# Altium integrated library Analog Devices Data Converters Digital-to-Analog Converters.IntLib: 2231 symbols (part 10 of 181)
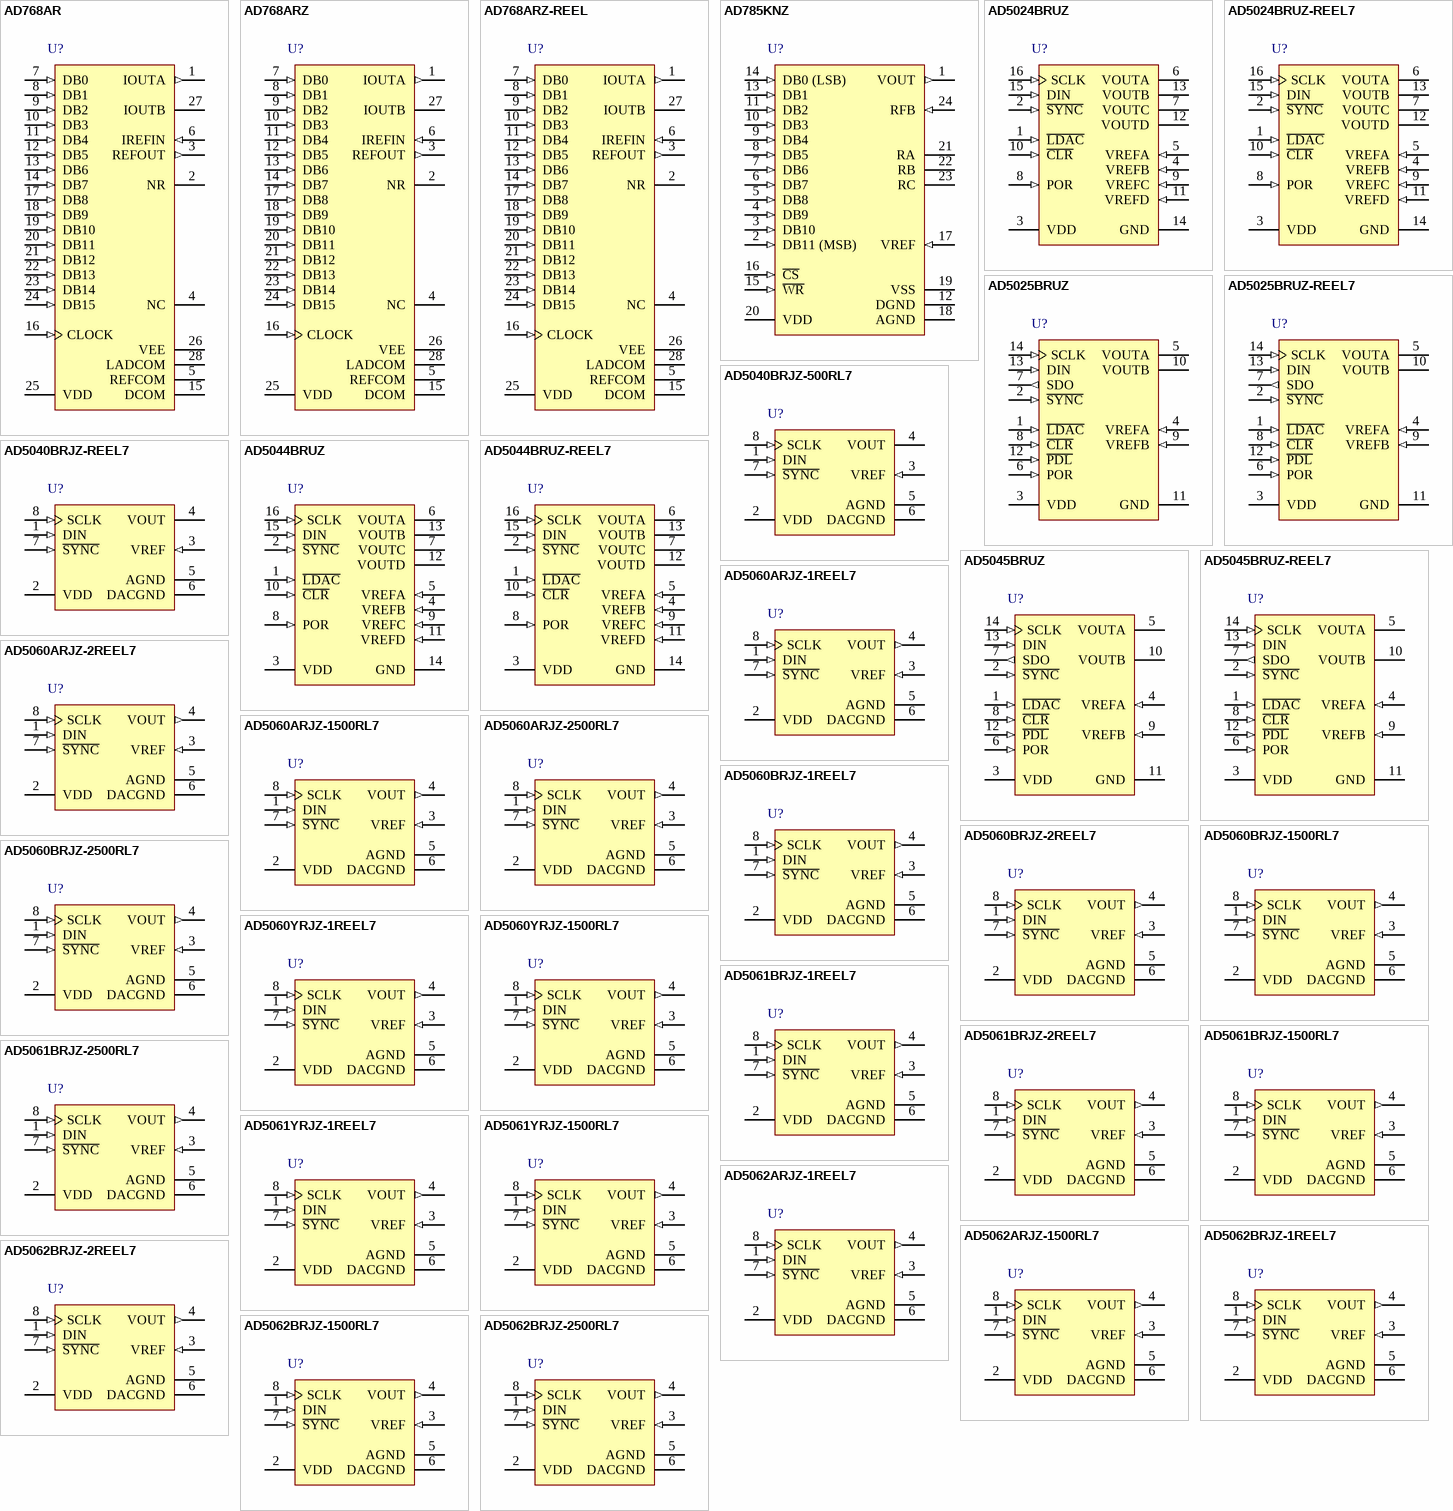
[diagram p123: symbols AD768AR to AD5062BRJZ-2500RL7]

## AD5062BRJZ-2REEL7
designator U?
Single 16-Bit Fully Accurate Voltage Output nanoDAC with SPI Interface, 2.7 to 5.5 V, -40 to +85 degC, RJ-8, Pb-Free, Reel; Generic Part Number: AD5062; Manufacturer: Analog Devices; PartNumber: AD5062BRJZ-2REEL7; # DAC Outputs: 1; Max V+: 5.5V; Op Pwr Diss: 3.3mW; Resolution (Bits): 16; Settling Time: 4µs; Single Supply: Yes; DatasheetVersion: Rev.A; PackageVersion: 121608-A; PackageReference: RJ-8; PackageDescription: 8-Lead Thin Small Outline Transistor Package [SOT-23]; Supplier 1: Digi-Key; Supplier Part Number 1: AD5062BRJZ-2REEL7TR-ND; Supplier 2: Digi-Key; Supplier Part Number 2: AD5062BRJZ-2REEL7CT-ND; Supplier 3: Digi-Key; Supplier Part Number 3: AD5062BRJZ-2REEL7DKR-ND; Supplier 4: Newark; Supplier Part Number 4: 59K3544; Supplier 5: Mouser; Supplier Part Number 5: 584-AD5062BRJZ-2R7; Packing: Reel; RoHS: Y; Mounting Technology: Surface Mount; Code_JEDEC: MO-178-BA; ComponentLink1Description: Manufacturer URL; ComponentLink1URL: http://www.analog.com/en/index.html; ComponentLink2Description: Datasheet; ComponentLink2URL: http://www.analog.com/static/imported-files/data_sheets/AD5062.pdf; ComponentLink3Description: Package Specification; ComponentLink3URL: http://www.analog.com/static/imported-files/packages/PKG_PDF/SOT-23(RJ)/RJ_8.pdf; ComponentLink4Description: Product URL; ComponentLink4URL: http://www.analog.com/en/digital-to-analog-converters/da-converters/ad5062/products/product.html
footprint RJ-8_N (SOP, 8-Leads, Body 2.9x1.6mm, Pitch 0.65mm, IPC Medium Density)
footprint RJ-8_L (SOP, 8-Leads, Body 2.9x1.6mm, Pitch 0.65mm, IPC High Density)
footprint RJ-8_M (SOP, 8-Leads, Body 2.9x1.6mm, Pitch 0.65mm, IPC Low Density)
pins: 1 DIN (in) "Serial Data Input. This device has a 24-bit shift register. Data is clocked into the register on the falling edge of the serial clock input.", 2 VDD (power) "Power Supply Input. These parts can be operated from 2.7 V to 5.5 V, and VDD should be decoupled to GND.", 3 VREF (in) "Reference Voltage Input.", 4 VOUT (out) "Analog Output Voltage from DAC.", 5 AGND (power) "Ground Reference Point for Analog Circuitry.", 6 DACGND (power) "Ground Input to the DAC.", 7 ~{SYNC} (in) "Level-Triggered Control Input (Active Low). This is the frame synchronization signal for the input data. When S\Y\N\C\ goes low, it enables the input shift register, and data is transferred in on the falling edges of the (See Datasheet)", 8 SCLK (in) "Serial Clock Input. Data is clocked into the input shift register on the falling edge of the serial clock input. Data can be transferred at rates up to 30 MHz."

## AD5062BRJZ-1500RL7
designator U?
Single 16-Bit Fully Accurate Voltage Output nanoDAC with SPI Interface, 2.7 to 5.5 V, -40 to +85 degC, RJ-8, Pb-Free, Reel; Generic Part Number: AD5062; Manufacturer: Analog Devices; PartNumber: AD5062BRJZ-1500RL7; # DAC Outputs: 1; Max V+: 5.5V; Op Pwr Diss: 3.3mW; Resolution (Bits): 16; Settling Time: 4µs; Single Supply: Yes; DatasheetVersion: Rev.A; PackageVersion: 121608-A; PackageReference: RJ-8; PackageDescription: 8-Lead Thin Small Outline Transistor Package [SOT-23]; Supplier 1: Digi-Key; Supplier Part Number 1: AD5062BRJZ-1500RL7TR-ND; Supplier 2: Digi-Key; Supplier Part Number 2: AD5062BRJZ-1500RL7CT-ND; Supplier 3: Digi-Key; Supplier Part Number 3: AD5062BRJZ-1500RL7DKR-ND; Supplier 4: Farnell; Supplier Part Number 4: 2067832; Supplier 5: Newark; Supplier Part Number 5: 72T0900; Supplier 6: Newark; Supplier Part Number 6: 59K3543; Supplier 7: Mouser; Supplier Part Number 7: 584-AD5062BRJZ1500R7; Packing: Reel; RoHS: Y; Mounting Technology: Surface Mount; Code_JEDEC: MO-178-BA; ComponentLink1Description: Manufacturer URL; ComponentLink1URL: http://www.analog.com/en/index.html; ComponentLink2Description: Datasheet; ComponentLink2URL: http://www.analog.com/static/imported-files/data_sheets/AD5062.pdf; ComponentLink3Description: Package Specification; ComponentLink3URL: http://www.analog.com/static/imported-files/packages/PKG_PDF/SOT-23(RJ)/RJ_8.pdf; ComponentLink4Description: Product URL; ComponentLink4URL: http://www.analog.com/en/digital-to-analog-converters/da-converters/ad5062/products/product.html
footprint RJ-8_N (SOP, 8-Leads, Body 2.9x1.6mm, Pitch 0.65mm, IPC Medium Density)
footprint RJ-8_L (SOP, 8-Leads, Body 2.9x1.6mm, Pitch 0.65mm, IPC High Density)
footprint RJ-8_M (SOP, 8-Leads, Body 2.9x1.6mm, Pitch 0.65mm, IPC Low Density)
pins: 1 DIN (in) "Serial Data Input. This device has a 24-bit shift register. Data is clocked into the register on the falling edge of the serial clock input.", 2 VDD (power) "Power Supply Input. These parts can be operated from 2.7 V to 5.5 V, and VDD should be decoupled to GND.", 3 VREF (in) "Reference Voltage Input.", 4 VOUT (out) "Analog Output Voltage from DAC.", 5 AGND (power) "Ground Reference Point for Analog Circuitry.", 6 DACGND (power) "Ground Input to the DAC.", 7 ~{SYNC} (in) "Level-Triggered Control Input (Active Low). This is the frame synchronization signal for the input data. When S\Y\N\C\ goes low, it enables the input shift register, and data is transferred in on the falling edges of the (See Datasheet)", 8 SCLK (in) "Serial Clock Input. Data is clocked into the input shift register on the falling edge of the serial clock input. Data can be transferred at rates up to 30 MHz."

## AD5062BRJZ-2500RL7
designator U?
Single 16-Bit Fully Accurate Voltage Output nanoDAC with SPI Interface, 2.7 to 5.5 V, -40 to +85 degC, RJ-8, Pb-Free, Reel; Generic Part Number: AD5062; Manufacturer: Analog Devices; PartNumber: AD5062BRJZ-2500RL7; # DAC Outputs: 1; Max V+: 5.5V; Op Pwr Diss: 3.3mW; Resolution (Bits): 16; Settling Time: 4µs; Single Supply: Yes; DatasheetVersion: Rev.A; PackageVersion: 121608-A; PackageReference: RJ-8; PackageDescription: 8-Lead Thin Small Outline Transistor Package [SOT-23]; Supplier 1: Digi-Key; Supplier Part Number 1: AD5062BRJZ-2500RL7TR-ND; Supplier 2: Digi-Key; Supplier Part Number 2: AD5062BRJZ-2500RL7CT-ND; Supplier 3: Digi-Key; Supplier Part Number 3: AD5062BRJZ-2500RL7DKR-ND; Supplier 4: Farnell; Supplier Part Number 4: 2067834; Supplier 5: Newark; Supplier Part Number 5: 72T0901; Supplier 6: Mouser; Supplier Part Number 6: 584-AD5062BRJZ2500R7; Packing: Reel; RoHS: Y; Mounting Technology: Surface Mount; Code_JEDEC: MO-178-BA; ComponentLink1Description: Manufacturer URL; ComponentLink1URL: http://www.analog.com/en/index.html; ComponentLink2Description: Datasheet; ComponentLink2URL: http://www.analog.com/static/imported-files/data_sheets/AD5062.pdf; ComponentLink3Description: Package Specification; ComponentLink3URL: http://www.analog.com/static/imported-files/packages/PKG_PDF/SOT-23(RJ)/RJ_8.pdf; ComponentLink4Description: Product URL; ComponentLink4URL: http://www.analog.com/en/digital-to-analog-converters/da-converters/ad5062/products/product.html
footprint RJ-8_N (SOP, 8-Leads, Body 2.9x1.6mm, Pitch 0.65mm, IPC Medium Density)
footprint RJ-8_L (SOP, 8-Leads, Body 2.9x1.6mm, Pitch 0.65mm, IPC High Density)
footprint RJ-8_M (SOP, 8-Leads, Body 2.9x1.6mm, Pitch 0.65mm, IPC Low Density)
pins: 1 DIN (in) "Serial Data Input. This device has a 24-bit shift register. Data is clocked into the register on the falling edge of the serial clock input.", 2 VDD (power) "Power Supply Input. These parts can be operated from 2.7 V to 5.5 V, and VDD should be decoupled to GND.", 3 VREF (in) "Reference Voltage Input.", 4 VOUT (out) "Analog Output Voltage from DAC.", 5 AGND (power) "Ground Reference Point for Analog Circuitry.", 6 DACGND (power) "Ground Input to the DAC.", 7 ~{SYNC} (in) "Level-Triggered Control Input (Active Low). This is the frame synchronization signal for the input data. When S\Y\N\C\ goes low, it enables the input shift register, and data is transferred in on the falling edges of the (See Datasheet)", 8 SCLK (in) "Serial Clock Input. Data is clocked into the input shift register on the falling edge of the serial clock input. Data can be transferred at rates up to 30 MHz."

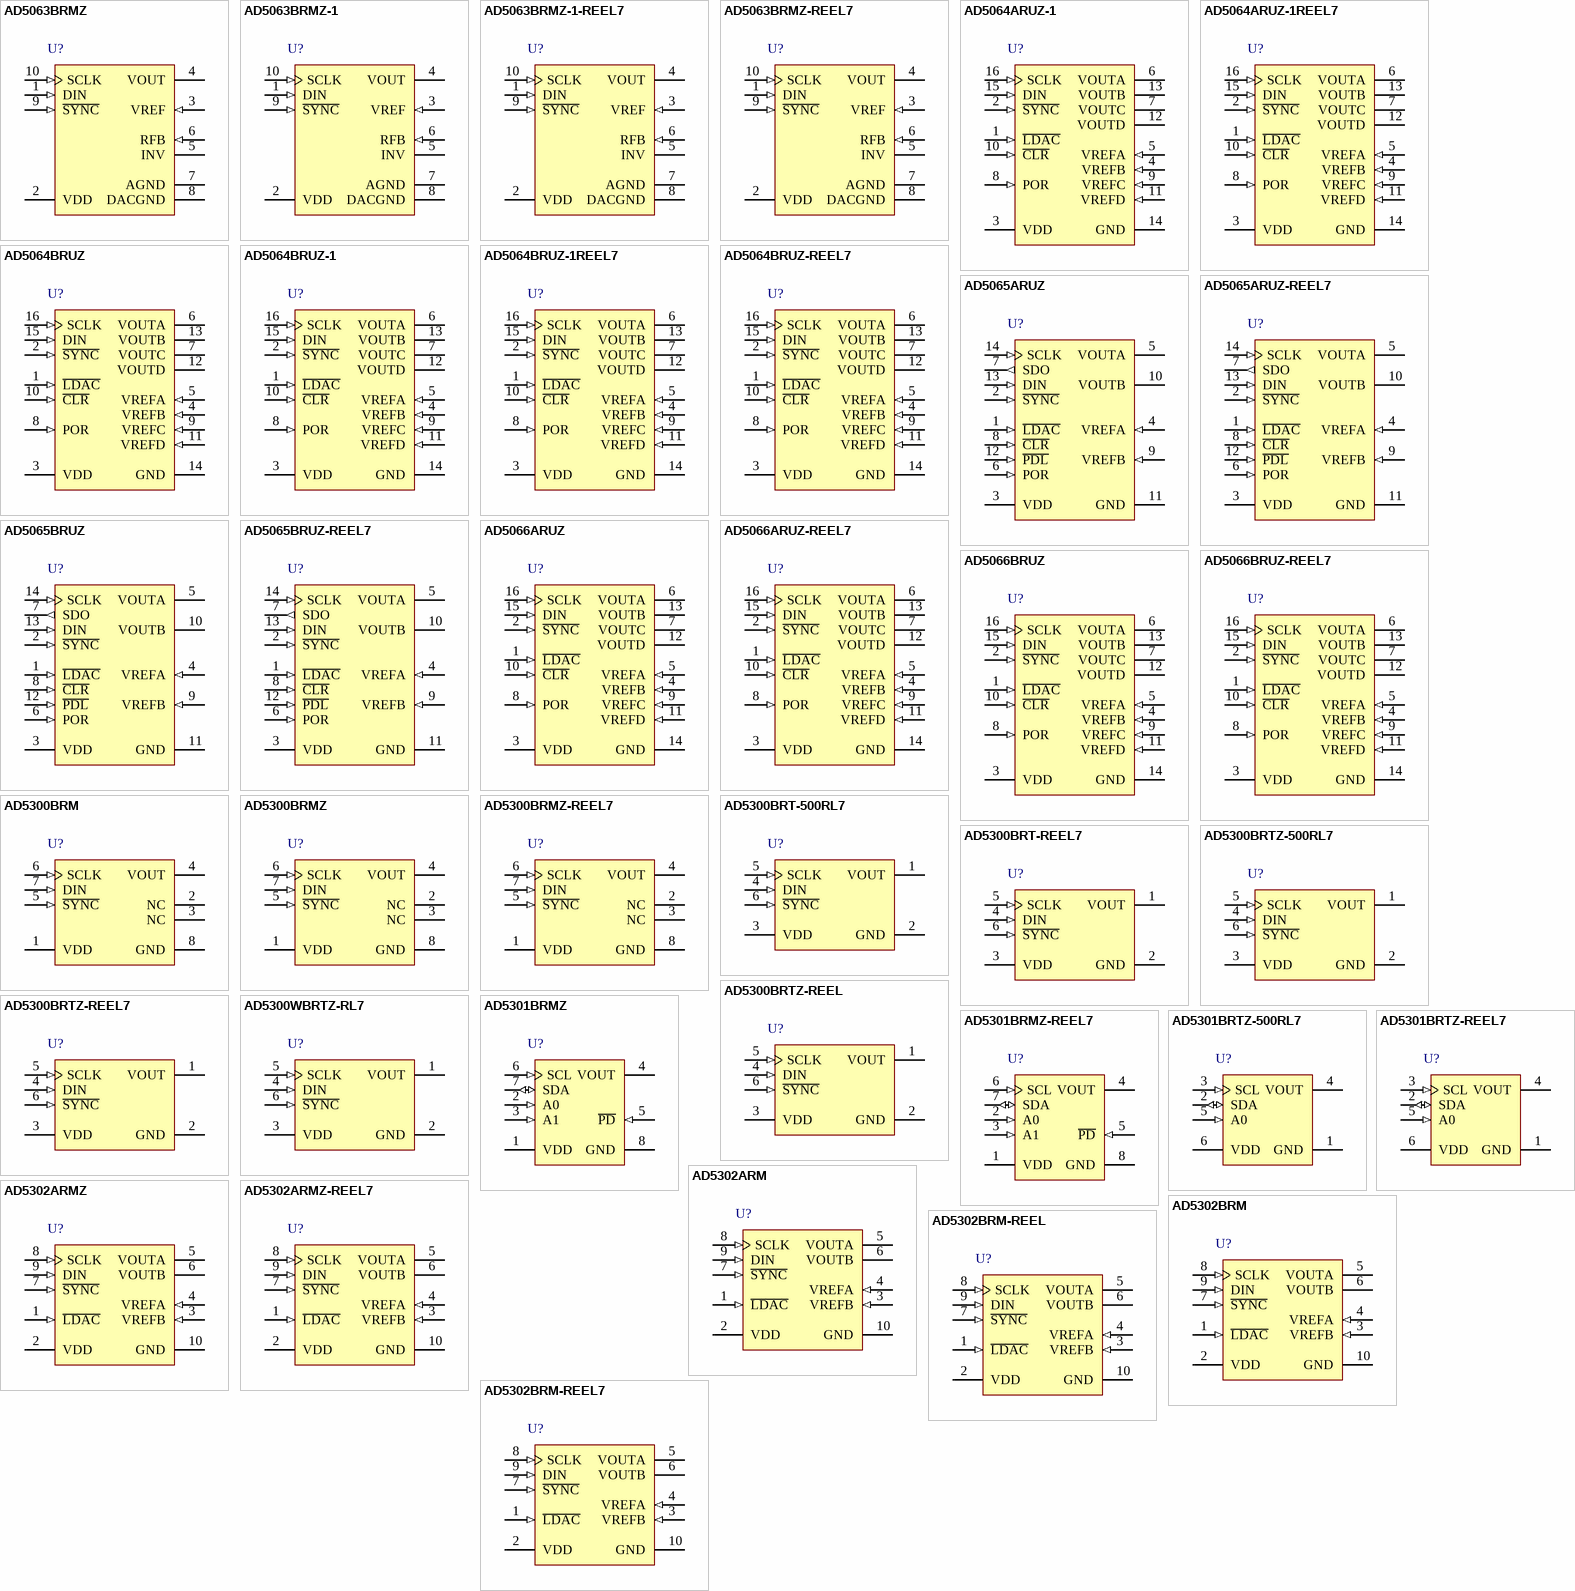
[diagram p9: symbols AD5063BRMZ to AD5302BRM-REEL7]

## AD5063BRMZ
designator U?
Single 16-Bit Fully Accurate Voltage Output nanoDAC with SPI Interface, 5 V, -40 to +85 degC, RM-10, Pb-Free, Tube; Generic Part Number: AD5063; Manufacturer: Analog Devices; PartNumber: AD5063BRMZ; # DAC Outputs: 1; Max V+: 5.5V; Op Pwr Diss: 3.85mW; Resolution (Bits): 16; Settling Time: 4µs; Single Supply: Yes; DatasheetVersion: Rev.C; PackageVersion: May-2005; PackageReference: RM-10; PackageDescription: 10-Lead Mini Small Outline Package [MSOP]; Supplier 1: Digi-Key; Supplier Part Number 1: AD5063BRMZ-ND; Supplier 2: Farnell; Supplier Part Number 2: 1078400; Supplier 3: Newark; Supplier Part Number 3: 19M0786; Supplier 4: Mouser; Supplier Part Number 4: 584-AD5063BRMZ; Packing: Tube; RoHS: Y; Mounting Technology: Surface Mount; ComponentLink1Description: Manufacturer URL; ComponentLink1URL: http://www.analog.com/en/index.html; ComponentLink2Description: Datasheet; ComponentLink2URL: http://www.analog.com/static/imported-files/data_sheets/AD5063.pdf; ComponentLink3Description: Package Specification; ComponentLink3URL: http://www.analog.com/static/imported-files/packages/PKG_PDF/MSOP%28RM%29/RM_10.pdf; ComponentLink4Description: Product URL; ComponentLink4URL: http://www.analog.com/en/digital-to-analog-converters/da-converters/ad5063/products/product.html
footprint RM-10_N (TSSOP, 10-Leads, Body 3x3mm, Pitch 0.5mm, IPC Medium Density)
footprint RM-10_L (TSSOP, 10-Leads, Body 3x3mm, Pitch 0.5mm, IPC High Density)
footprint RM-10_M (TSSOP, 10-Leads, Body 3x3mm, Pitch 0.5mm, IPC Low Density)
pins: 1 DIN (in) "Serial Data Input. This device has a 24-bit shift register. Data is clocked into the register on the falling edge of the serial clock input.", 2 VDD (power) "Power Supply Input. These parts can be operated from 2.7 V to 5.5 V, and VDD should be decoupled to GND.", 3 VREF (in) "Reference Voltage Input.", 4 VOUT (hiz) "Analog Output Voltage from DAC.", 5 INV "Connected to the Internal Scaling Resistors of the DAC. Connect the INV pin to the external op amp’s inverting input in bipolar mode.", 6 RFB (in) "Feedback Resistor. In bipolar mode, connect this pin to the external op amp circuit.", 7 AGND (power) "Ground Reference Point for Analog Circuitry.", 8 DACGND (power) "Ground Input to the DAC.", 9 ~{SYNC} (in) "Level-Triggered Control Input (Active Low). This is the frame synchronization signal for the input data. When S\Y\N\C\ goes low, it enables the input shift register, and data is then transferred in on the falling edges of (See Datasheet)", 10 SCLK (in) "Serial Clock Input. Data is clocked into the input shift register on the falling edge of the serial clock input. Data can be transferred at rates of up to 30 MHz."

## AD5063BRMZ-1
designator U?
Single 16-Bit Fully Accurate Voltage Output nanoDAC with SPI Interface, 5 V, -40 to +85 degC, RM-10, Pb-Free, Tube; Generic Part Number: AD5063; Manufacturer: Analog Devices; PartNumber: AD5063BRMZ-1; # DAC Outputs: 1; Max V+: 5.5V; Op Pwr Diss: 3.85mW; Resolution (Bits): 16; Settling Time: 4µs; Single Supply: Yes; DatasheetVersion: Rev.C; PackageVersion: May-2005; PackageReference: RM-10; PackageDescription: 10-Lead Mini Small Outline Package [MSOP]; Supplier 1: Digi-Key; Supplier Part Number 1: AD5063BRMZ-1-ND; Supplier 2: Farnell; Supplier Part Number 2: 2067835; Supplier 3: Newark; Supplier Part Number 3: 52R8107; Supplier 4: Mouser; Supplier Part Number 4: 584-AD5063BRMZ-1; Packing: Tube; RoHS: Y; Mounting Technology: Surface Mount; ComponentLink1Description: Manufacturer URL; ComponentLink1URL: http://www.analog.com/en/index.html; ComponentLink2Description: Datasheet; ComponentLink2URL: http://www.analog.com/static/imported-files/data_sheets/AD5063.pdf; ComponentLink3Description: Package Specification; ComponentLink3URL: http://www.analog.com/static/imported-files/packages/PKG_PDF/MSOP%28RM%29/RM_10.pdf; ComponentLink4Description: Product URL; ComponentLink4URL: http://www.analog.com/en/digital-to-analog-converters/da-converters/ad5063/products/product.html
footprint RM-10_N (TSSOP, 10-Leads, Body 3x3mm, Pitch 0.5mm, IPC Medium Density)
footprint RM-10_L (TSSOP, 10-Leads, Body 3x3mm, Pitch 0.5mm, IPC High Density)
footprint RM-10_M (TSSOP, 10-Leads, Body 3x3mm, Pitch 0.5mm, IPC Low Density)
pins: 1 DIN (in) "Serial Data Input. This device has a 24-bit shift register. Data is clocked into the register on the falling edge of the serial clock input.", 2 VDD (power) "Power Supply Input. These parts can be operated from 2.7 V to 5.5 V, and VDD should be decoupled to GND.", 3 VREF (in) "Reference Voltage Input.", 4 VOUT (hiz) "Analog Output Voltage from DAC.", 5 INV "Connected to the Internal Scaling Resistors of the DAC. Connect the INV pin to the external op amp’s inverting input in bipolar mode.", 6 RFB (in) "Feedback Resistor. In bipolar mode, connect this pin to the external op amp circuit.", 7 AGND (power) "Ground Reference Point for Analog Circuitry.", 8 DACGND (power) "Ground Input to the DAC.", 9 ~{SYNC} (in) "Level-Triggered Control Input (Active Low). This is the frame synchronization signal for the input data. When S\Y\N\C\ goes low, it enables the input shift register, and data is then transferred in on the falling edges of (See Datasheet)", 10 SCLK (in) "Serial Clock Input. Data is clocked into the input shift register on the falling edge of the serial clock input. Data can be transferred at rates of up to 30 MHz."

## AD5063BRMZ-1-REEL7
designator U?
Single 16-Bit Fully Accurate Voltage Output nanoDAC with SPI Interface, 5 V, -40 to +85 degC, RM-10, Pb-Free, Reel; Generic Part Number: AD5063; Manufacturer: Analog Devices; PartNumber: AD5063BRMZ-1-REEL7; # DAC Outputs: 1; Max V+: 5.5V; Op Pwr Diss: 3.85mW; Resolution (Bits): 16; Settling Time: 4µs; Single Supply: Yes; DatasheetVersion: Rev.C; PackageVersion: May-2005; PackageReference: RM-10; PackageDescription: 10-Lead Mini Small Outline Package [MSOP]; Supplier 1: Digi-Key; Supplier Part Number 1: AD5063BRMZ-1-REEL7-ND; Supplier 2: Newark; Supplier Part Number 2: 52R8108; Supplier 3: Mouser; Supplier Part Number 3: 584-AD5063BRMZ1-R7; Packing: Reel; RoHS: Y; Mounting Technology: Surface Mount; ComponentLink1Description: Manufacturer URL; ComponentLink1URL: http://www.analog.com/en/index.html; ComponentLink2Description: Datasheet; ComponentLink2URL: http://www.analog.com/static/imported-files/data_sheets/AD5063.pdf; ComponentLink3Description: Package Specification; ComponentLink3URL: http://www.analog.com/static/imported-files/packages/PKG_PDF/MSOP%28RM%29/RM_10.pdf; ComponentLink4Description: Product URL; ComponentLink4URL: http://www.analog.com/en/digital-to-analog-converters/da-converters/ad5063/products/product.html
footprint RM-10_N (TSSOP, 10-Leads, Body 3x3mm, Pitch 0.5mm, IPC Medium Density)
footprint RM-10_L (TSSOP, 10-Leads, Body 3x3mm, Pitch 0.5mm, IPC High Density)
footprint RM-10_M (TSSOP, 10-Leads, Body 3x3mm, Pitch 0.5mm, IPC Low Density)
pins: 1 DIN (in) "Serial Data Input. This device has a 24-bit shift register. Data is clocked into the register on the falling edge of the serial clock input.", 2 VDD (power) "Power Supply Input. These parts can be operated from 2.7 V to 5.5 V, and VDD should be decoupled to GND.", 3 VREF (in) "Reference Voltage Input.", 4 VOUT (hiz) "Analog Output Voltage from DAC.", 5 INV "Connected to the Internal Scaling Resistors of the DAC. Connect the INV pin to the external op amp’s inverting input in bipolar mode.", 6 RFB (in) "Feedback Resistor. In bipolar mode, connect this pin to the external op amp circuit.", 7 AGND (power) "Ground Reference Point for Analog Circuitry.", 8 DACGND (power) "Ground Input to the DAC.", 9 ~{SYNC} (in) "Level-Triggered Control Input (Active Low). This is the frame synchronization signal for the input data. When S\Y\N\C\ goes low, it enables the input shift register, and data is then transferred in on the falling edges of (See Datasheet)", 10 SCLK (in) "Serial Clock Input. Data is clocked into the input shift register on the falling edge of the serial clock input. Data can be transferred at rates of up to 30 MHz."

## AD5063BRMZ-REEL7
designator U?
Single 16-Bit Fully Accurate Voltage Output nanoDAC with SPI Interface, 5 V, -40 to +85 degC, RM-10, Pb-Free, Reel; Generic Part Number: AD5063; Manufacturer: Analog Devices; PartNumber: AD5063BRMZ-REEL7; # DAC Outputs: 1; Max V+: 5.5V; Op Pwr Diss: 3.85mW; Resolution (Bits): 16; Settling Time: 4µs; Single Supply: Yes; DatasheetVersion: Rev.C; PackageVersion: May-2005; PackageReference: RM-10; PackageDescription: 10-Lead Mini Small Outline Package [MSOP]; Supplier 1: Digi-Key; Supplier Part Number 1: AD5063BRMZ-REEL7-ND; Supplier 2: Mouser; Supplier Part Number 2: 584-AD5063BRMZ-R7; Packing: Reel; RoHS: Y; Mounting Technology: Surface Mount; ComponentLink1Description: Manufacturer URL; ComponentLink1URL: http://www.analog.com/en/index.html; ComponentLink2Description: Datasheet; ComponentLink2URL: http://www.analog.com/static/imported-files/data_sheets/AD5063.pdf; ComponentLink3Description: Package Specification; ComponentLink3URL: http://www.analog.com/static/imported-files/packages/PKG_PDF/MSOP%28RM%29/RM_10.pdf; ComponentLink4Description: Product URL; ComponentLink4URL: http://www.analog.com/en/digital-to-analog-converters/da-converters/ad5063/products/product.html
footprint RM-10_N (TSSOP, 10-Leads, Body 3x3mm, Pitch 0.5mm, IPC Medium Density)
footprint RM-10_L (TSSOP, 10-Leads, Body 3x3mm, Pitch 0.5mm, IPC High Density)
footprint RM-10_M (TSSOP, 10-Leads, Body 3x3mm, Pitch 0.5mm, IPC Low Density)
pins: 1 DIN (in) "Serial Data Input. This device has a 24-bit shift register. Data is clocked into the register on the falling edge of the serial clock input.", 2 VDD (power) "Power Supply Input. These parts can be operated from 2.7 V to 5.5 V, and VDD should be decoupled to GND.", 3 VREF (in) "Reference Voltage Input.", 4 VOUT (hiz) "Analog Output Voltage from DAC.", 5 INV "Connected to the Internal Scaling Resistors of the DAC. Connect the INV pin to the external op amp’s inverting input in bipolar mode.", 6 RFB (in) "Feedback Resistor. In bipolar mode, connect this pin to the external op amp circuit.", 7 AGND (power) "Ground Reference Point for Analog Circuitry.", 8 DACGND (power) "Ground Input to the DAC.", 9 ~{SYNC} (in) "Level-Triggered Control Input (Active Low). This is the frame synchronization signal for the input data. When S\Y\N\C\ goes low, it enables the input shift register, and data is then transferred in on the falling edges of (See Datasheet)", 10 SCLK (in) "Serial Clock Input. Data is clocked into the input shift register on the falling edge of the serial clock input. Data can be transferred at rates of up to 30 MHz."

## AD5064ARUZ-1
designator U?
Quad 16-Bit Fully Accurate Voltage Output nanoDAC with SPI Interface, 5 V, -40 to +125 degC, RU-16, Pb-Free, Tube; Generic Part Number: AD5064; Manufacturer: Analog Devices; PartNumber: AD5064ARUZ-1; # DAC Outputs: 4; Max V+: 5.5V; Op Pwr Diss: 20mW; Resolution (Bits): 16; Settling Time: 8µs; Single Supply: Yes; DatasheetVersion: Rev.E; PackageVersion: Nov-2002; PackageReference: RU-16; PackageDescription: 16-Lead Thin Shrink Small Outline Package [TSSOP]; Supplier 1: Digi-Key; Supplier Part Number 1: AD5064ARUZ-1-ND; Supplier 2: Farnell; Supplier Part Number 2: 2067837; Supplier 3: Newark; Supplier Part Number 3: 05R6574; Supplier 4: Mouser; Supplier Part Number 4: 584-AD5064ARUZ-1; Packing: Tube; RoHS: Y; Mounting Technology: Surface Mount; Code_JEDEC: MO-153-AB; ComponentLink1Description: Manufacturer URL; ComponentLink1URL: http://www.analog.com/en/index.html; ComponentLink2Description: Datasheet; ComponentLink2URL: http://www.analog.com/static/imported-files/data_sheets/AD5024_AD5044_AD5064.pdf; ComponentLink3Description: Package Specification; ComponentLink3URL: http://www.analog.com/static/imported-files/packages/36244347913743854010197452789RU16.pdf; ComponentLink4Description: Product URL; ComponentLink4URL: http://www.analog.com/en/digital-to-analog-converters/da-converters/ad5064/products/product.html
footprint RU-16_N (TSOP, 16-Leads, Body 5x4.4mm, Pitch 0.65mm, IPC Medium Density)
footprint RU-16_L (TSOP, 16-Leads, Body 5x4.4mm, Pitch 0.65mm, IPC High Density)
footprint RU-16_M (TSOP, 16-Leads, Body 5x4.4mm, Pitch 0.65mm, IPC Low Density)
pins: 1 ~{LDAC} (in) "L\D\A\C\ can be operated in two modes, asynchronously and synchronously, as shown in Figure4. Pulsing this pin low allows any or all DAC registers to be updated if the input registers have new data. This allows all DAC (See Datasheet)", 2 ~{SYNC} (in) "Active Low Control Input. This is the frame synchronization signal for the input data. When S\Y\N\C\ goes low, it powers on the SCLK and DIN buffers and enables the shift register. Data is transferred in on the falling edges (See Datasheet)", 3 VDD (power) "Power Supply Input. These parts can be operated from 4.5 V to 5.5 V, and the supply should be decoupled with a 10 uF capacitor in parallel with a 0.1 uF capacitor to GND.", 4 VREFB (in) "DAC B Reference Input. This is the reference voltage input pin for DAC B.", 5 VREFA (in) "DAC A Reference Input. This is the reference voltage input pin for DAC A.", 6 VOUTA (hiz) "Analog Output Voltage from DAC A. The output amplifier has rail-to-rail operation.", 7 VOUTC (hiz) "Analog Output Voltage from DAC C. The output amplifier has rail-to-rail operation.", 8 POR (in) "Power-On Reset. Tying this pin to GND powers up the part to 0 V. Tying this pin to VDD powers up the part to midscale.", 9 VREFC (in) "DAC C Reference Input. This is the reference voltage input pin for DAC C.", 10 ~{CLR} (in) "Asynchronous Clear Input. The C\L\R\ input is falling edge sensitive. When C\L\R\ is low, all L\D\A\C\ pulses are ignored. When C\L\R\ is activated, the input register and the DAC register are updated with the data contained (See Datasheet)", 11 VREFD (in) "DAC D Reference Input. This is the reference voltage input pin for DAC D.", 12 VOUTD (hiz) "Analog Output Voltage from DAC D. The output amplifier has rail-to-rail operation.", 13 VOUTB (hiz) "Analog Output Voltage from DAC B. The output amplifier has rail-to-rail operation.", 14 GND (power) "Ground Reference Point for All Circuitry on the Part.", 15 DIN (in) "Serial Data Input. This device has a 32-bit shift register. Data is clocked into the shift register on the falling edge of the serial clock input.", 16 SCLK (in) "Serial Clock Input. Data is clocked into the shift register on the falling edge of the serial clock input. Data can be transferred at rates of up to 50 MHz."

## AD5064ARUZ-1REEL7
designator U?
Quad 16-Bit Fully Accurate Voltage Output nanoDAC with SPI Interface, 5 V, -40 to +125 degC, RU-16, Pb-Free, Reel; Generic Part Number: AD5064; Manufacturer: Analog Devices; PartNumber: AD5064ARUZ-1REEL7; # DAC Outputs: 4; Max V+: 5.5V; Op Pwr Diss: 20mW; Resolution (Bits): 16; Settling Time: 8µs; Single Supply: Yes; DatasheetVersion: Rev.E; PackageVersion: Nov-2002; PackageReference: RU-16; PackageDescription: 16-Lead Thin Shrink Small Outline Package [TSSOP]; Supplier 1: Digi-Key; Supplier Part Number 1: AD5064ARUZ-1REEL7-ND; Supplier 2: Mouser; Supplier Part Number 2: 584-AD5064ARUZ-1R7; Packing: Reel; RoHS: Y; Mounting Technology: Surface Mount; Code_JEDEC: MO-153-AB; ComponentLink1Description: Manufacturer URL; ComponentLink1URL: http://www.analog.com/en/index.html; ComponentLink2Description: Datasheet; ComponentLink2URL: http://www.analog.com/static/imported-files/data_sheets/AD5024_AD5044_AD5064.pdf; ComponentLink3Description: Package Specification; ComponentLink3URL: http://www.analog.com/static/imported-files/packages/36244347913743854010197452789RU16.pdf; ComponentLink4Description: Product URL; ComponentLink4URL: http://www.analog.com/en/digital-to-analog-converters/da-converters/ad5064/products/product.html
footprint RU-16_N (TSOP, 16-Leads, Body 5x4.4mm, Pitch 0.65mm, IPC Medium Density)
footprint RU-16_L (TSOP, 16-Leads, Body 5x4.4mm, Pitch 0.65mm, IPC High Density)
footprint RU-16_M (TSOP, 16-Leads, Body 5x4.4mm, Pitch 0.65mm, IPC Low Density)
pins: 1 ~{LDAC} (in) "L\D\A\C\ can be operated in two modes, asynchronously and synchronously, as shown in Figure4. Pulsing this pin low allows any or all DAC registers to be updated if the input registers have new data. This allows all DAC (See Datasheet)", 2 ~{SYNC} (in) "Active Low Control Input. This is the frame synchronization signal for the input data. When S\Y\N\C\ goes low, it powers on the SCLK and DIN buffers and enables the shift register. Data is transferred in on the falling edges (See Datasheet)", 3 VDD (power) "Power Supply Input. These parts can be operated from 4.5 V to 5.5 V, and the supply should be decoupled with a 10 uF capacitor in parallel with a 0.1 uF capacitor to GND.", 4 VREFB (in) "DAC B Reference Input. This is the reference voltage input pin for DAC B.", 5 VREFA (in) "DAC A Reference Input. This is the reference voltage input pin for DAC A.", 6 VOUTA (hiz) "Analog Output Voltage from DAC A. The output amplifier has rail-to-rail operation.", 7 VOUTC (hiz) "Analog Output Voltage from DAC C. The output amplifier has rail-to-rail operation.", 8 POR (in) "Power-On Reset. Tying this pin to GND powers up the part to 0 V. Tying this pin to VDD powers up the part to midscale.", 9 VREFC (in) "DAC C Reference Input. This is the reference voltage input pin for DAC C.", 10 ~{CLR} (in) "Asynchronous Clear Input. The C\L\R\ input is falling edge sensitive. When C\L\R\ is low, all L\D\A\C\ pulses are ignored. When C\L\R\ is activated, the input register and the DAC register are updated with the data contained (See Datasheet)", 11 VREFD (in) "DAC D Reference Input. This is the reference voltage input pin for DAC D.", 12 VOUTD (hiz) "Analog Output Voltage from DAC D. The output amplifier has rail-to-rail operation.", 13 VOUTB (hiz) "Analog Output Voltage from DAC B. The output amplifier has rail-to-rail operation.", 14 GND (power) "Ground Reference Point for All Circuitry on the Part.", 15 DIN (in) "Serial Data Input. This device has a 32-bit shift register. Data is clocked into the shift register on the falling edge of the serial clock input.", 16 SCLK (in) "Serial Clock Input. Data is clocked into the shift register on the falling edge of the serial clock input. Data can be transferred at rates of up to 50 MHz."

## AD5064BRUZ
designator U?
Quad 16-Bit Fully Accurate Voltage Output nanoDAC with SPI Interface, 5 V, -40 to +125 degC, RU-16, Pb-Free, Tube; Generic Part Number: AD5064; Manufacturer: Analog Devices; PartNumber: AD5064BRUZ; # DAC Outputs: 4; Max V+: 5.5V; Op Pwr Diss: 20mW; Resolution (Bits): 16; Settling Time: 8µs; Single Supply: Yes; DatasheetVersion: Rev.E; PackageVersion: Nov-2002; PackageReference: RU-16; PackageDescription: 16-Lead Thin Shrink Small Outline Package [TSSOP]; Supplier 1: Digi-Key; Supplier Part Number 1: AD5064BRUZ-ND; Supplier 2: Farnell; Supplier Part Number 2: 2067836; Supplier 3: Newark; Supplier Part Number 3: 11P2915; Supplier 4: Mouser; Supplier Part Number 4: 584-AD5064BRUZ; Packing: Tube; RoHS: Y; Mounting Technology: Surface Mount; Code_JEDEC: MO-153-AB; ComponentLink1Description: Manufacturer URL; ComponentLink1URL: http://www.analog.com/en/index.html; ComponentLink2Description: Datasheet; ComponentLink2URL: http://www.analog.com/static/imported-files/data_sheets/AD5024_AD5044_AD5064.pdf; ComponentLink3Description: Package Specification; ComponentLink3URL: http://www.analog.com/static/imported-files/packages/36244347913743854010197452789RU16.pdf; ComponentLink4Description: Product URL; ComponentLink4URL: http://www.analog.com/en/digital-to-analog-converters/da-converters/ad5064/products/product.html
footprint RU-16_N (TSOP, 16-Leads, Body 5x4.4mm, Pitch 0.65mm, IPC Medium Density)
footprint RU-16_L (TSOP, 16-Leads, Body 5x4.4mm, Pitch 0.65mm, IPC High Density)
footprint RU-16_M (TSOP, 16-Leads, Body 5x4.4mm, Pitch 0.65mm, IPC Low Density)
pins: 1 ~{LDAC} (in) "L\D\A\C\ can be operated in two modes, asynchronously and synchronously, as shown in Figure4. Pulsing this pin low allows any or all DAC registers to be updated if the input registers have new data. This allows all DAC (See Datasheet)", 2 ~{SYNC} (in) "Active Low Control Input. This is the frame synchronization signal for the input data. When S\Y\N\C\ goes low, it powers on the SCLK and DIN buffers and enables the shift register. Data is transferred in on the falling edges (See Datasheet)", 3 VDD (power) "Power Supply Input. These parts can be operated from 4.5 V to 5.5 V, and the supply should be decoupled with a 10 uF capacitor in parallel with a 0.1 uF capacitor to GND.", 4 VREFB (in) "DAC B Reference Input. This is the reference voltage input pin for DAC B.", 5 VREFA (in) "DAC A Reference Input. This is the reference voltage input pin for DAC A.", 6 VOUTA (hiz) "Analog Output Voltage from DAC A. The output amplifier has rail-to-rail operation.", 7 VOUTC (hiz) "Analog Output Voltage from DAC C. The output amplifier has rail-to-rail operation.", 8 POR (in) "Power-On Reset. Tying this pin to GND powers up the part to 0 V. Tying this pin to VDD powers up the part to midscale.", 9 VREFC (in) "DAC C Reference Input. This is the reference voltage input pin for DAC C.", 10 ~{CLR} (in) "Asynchronous Clear Input. The C\L\R\ input is falling edge sensitive. When C\L\R\ is low, all L\D\A\C\ pulses are ignored. When C\L\R\ is activated, the input register and the DAC register are updated with the data contained (See Datasheet)", 11 VREFD (in) "DAC D Reference Input. This is the reference voltage input pin for DAC D.", 12 VOUTD (hiz) "Analog Output Voltage from DAC D. The output amplifier has rail-to-rail operation.", 13 VOUTB (hiz) "Analog Output Voltage from DAC B. The output amplifier has rail-to-rail operation.", 14 GND (power) "Ground Reference Point for All Circuitry on the Part.", 15 DIN (in) "Serial Data Input. This device has a 32-bit shift register. Data is clocked into the shift register on the falling edge of the serial clock input.", 16 SCLK (in) "Serial Clock Input. Data is clocked into the shift register on the falling edge of the serial clock input. Data can be transferred at rates of up to 50 MHz."

## AD5064BRUZ-1
designator U?
Quad 16-Bit Fully Accurate Voltage Output nanoDAC with SPI Interface, 5 V, -40 to +125 degC, RU-16, Pb-Free, Tube; Generic Part Number: AD5064; Manufacturer: Analog Devices; PartNumber: AD5064BRUZ-1; # DAC Outputs: 4; Max V+: 5.5V; Op Pwr Diss: 20mW; Resolution (Bits): 16; Settling Time: 8µs; Single Supply: Yes; DatasheetVersion: Rev.E; PackageVersion: Nov-2002; PackageReference: RU-16; PackageDescription: 16-Lead Thin Shrink Small Outline Package [TSSOP]; Supplier 1: Digi-Key; Supplier Part Number 1: AD5064BRUZ-1-ND; Supplier 2: Farnell; Supplier Part Number 2: 2067838; Supplier 3: Newark; Supplier Part Number 3: 71P7858; Supplier 4: Mouser; Supplier Part Number 4: 584-AD5064BRUZ-1; Packing: Tube; RoHS: Y; Mounting Technology: Surface Mount; Code_JEDEC: MO-153-AB; ComponentLink1Description: Manufacturer URL; ComponentLink1URL: http://www.analog.com/en/index.html; ComponentLink2Description: Datasheet; ComponentLink2URL: http://www.analog.com/static/imported-files/data_sheets/AD5024_AD5044_AD5064.pdf; ComponentLink3Description: Package Specification; ComponentLink3URL: http://www.analog.com/static/imported-files/packages/36244347913743854010197452789RU16.pdf; ComponentLink4Description: Product URL; ComponentLink4URL: http://www.analog.com/en/digital-to-analog-converters/da-converters/ad5064/products/product.html
footprint RU-16_N (TSOP, 16-Leads, Body 5x4.4mm, Pitch 0.65mm, IPC Medium Density)
footprint RU-16_L (TSOP, 16-Leads, Body 5x4.4mm, Pitch 0.65mm, IPC High Density)
footprint RU-16_M (TSOP, 16-Leads, Body 5x4.4mm, Pitch 0.65mm, IPC Low Density)
pins: 1 ~{LDAC} (in) "L\D\A\C\ can be operated in two modes, asynchronously and synchronously, as shown in Figure4. Pulsing this pin low allows any or all DAC registers to be updated if the input registers have new data. This allows all DAC (See Datasheet)", 2 ~{SYNC} (in) "Active Low Control Input. This is the frame synchronization signal for the input data. When S\Y\N\C\ goes low, it powers on the SCLK and DIN buffers and enables the shift register. Data is transferred in on the falling edges (See Datasheet)", 3 VDD (power) "Power Supply Input. These parts can be operated from 4.5 V to 5.5 V, and the supply should be decoupled with a 10 uF capacitor in parallel with a 0.1 uF capacitor to GND.", 4 VREFB (in) "DAC B Reference Input. This is the reference voltage input pin for DAC B.", 5 VREFA (in) "DAC A Reference Input. This is the reference voltage input pin for DAC A.", 6 VOUTA (hiz) "Analog Output Voltage from DAC A. The output amplifier has rail-to-rail operation.", 7 VOUTC (hiz) "Analog Output Voltage from DAC C. The output amplifier has rail-to-rail operation.", 8 POR (in) "Power-On Reset. Tying this pin to GND powers up the part to 0 V. Tying this pin to VDD powers up the part to midscale.", 9 VREFC (in) "DAC C Reference Input. This is the reference voltage input pin for DAC C.", 10 ~{CLR} (in) "Asynchronous Clear Input. The C\L\R\ input is falling edge sensitive. When C\L\R\ is low, all L\D\A\C\ pulses are ignored. When C\L\R\ is activated, the input register and the DAC register are updated with the data contained (See Datasheet)", 11 VREFD (in) "DAC D Reference Input. This is the reference voltage input pin for DAC D.", 12 VOUTD (hiz) "Analog Output Voltage from DAC D. The output amplifier has rail-to-rail operation.", 13 VOUTB (hiz) "Analog Output Voltage from DAC B. The output amplifier has rail-to-rail operation.", 14 GND (power) "Ground Reference Point for All Circuitry on the Part.", 15 DIN (in) "Serial Data Input. This device has a 32-bit shift register. Data is clocked into the shift register on the falling edge of the serial clock input.", 16 SCLK (in) "Serial Clock Input. Data is clocked into the shift register on the falling edge of the serial clock input. Data can be transferred at rates of up to 50 MHz."

## AD5064BRUZ-1REEL7
designator U?
Quad 16-Bit Fully Accurate Voltage Output nanoDAC with SPI Interface, 5 V, -40 to +125 degC, RU-16, Pb-Free, Reel; Generic Part Number: AD5064; Manufacturer: Analog Devices; PartNumber: AD5064BRUZ-1REEL7; # DAC Outputs: 4; Max V+: 5.5V; Op Pwr Diss: 20mW; Resolution (Bits): 16; Settling Time: 8µs; Single Supply: Yes; DatasheetVersion: Rev.E; PackageVersion: Nov-2002; PackageReference: RU-16; PackageDescription: 16-Lead Thin Shrink Small Outline Package [TSSOP]; Supplier 1: Digi-Key; Supplier Part Number 1: AD5064BRUZ-1REEL7-ND; Supplier 2: Mouser; Supplier Part Number 2: 584-AD5064BRUZ-1R7; Packing: Reel; RoHS: Y; Mounting Technology: Surface Mount; Code_JEDEC: MO-153-AB; ComponentLink1Description: Manufacturer URL; ComponentLink1URL: http://www.analog.com/en/index.html; ComponentLink2Description: Datasheet; ComponentLink2URL: http://www.analog.com/static/imported-files/data_sheets/AD5024_AD5044_AD5064.pdf; ComponentLink3Description: Package Specification; ComponentLink3URL: http://www.analog.com/static/imported-files/packages/36244347913743854010197452789RU16.pdf; ComponentLink4Description: Product URL; ComponentLink4URL: http://www.analog.com/en/digital-to-analog-converters/da-converters/ad5064/products/product.html
footprint RU-16_N (TSOP, 16-Leads, Body 5x4.4mm, Pitch 0.65mm, IPC Medium Density)
footprint RU-16_L (TSOP, 16-Leads, Body 5x4.4mm, Pitch 0.65mm, IPC High Density)
footprint RU-16_M (TSOP, 16-Leads, Body 5x4.4mm, Pitch 0.65mm, IPC Low Density)
pins: 1 ~{LDAC} (in) "L\D\A\C\ can be operated in two modes, asynchronously and synchronously, as shown in Figure4. Pulsing this pin low allows any or all DAC registers to be updated if the input registers have new data. This allows all DAC (See Datasheet)", 2 ~{SYNC} (in) "Active Low Control Input. This is the frame synchronization signal for the input data. When S\Y\N\C\ goes low, it powers on the SCLK and DIN buffers and enables the shift register. Data is transferred in on the falling edges (See Datasheet)", 3 VDD (power) "Power Supply Input. These parts can be operated from 4.5 V to 5.5 V, and the supply should be decoupled with a 10 uF capacitor in parallel with a 0.1 uF capacitor to GND.", 4 VREFB (in) "DAC B Reference Input. This is the reference voltage input pin for DAC B.", 5 VREFA (in) "DAC A Reference Input. This is the reference voltage input pin for DAC A.", 6 VOUTA (hiz) "Analog Output Voltage from DAC A. The output amplifier has rail-to-rail operation.", 7 VOUTC (hiz) "Analog Output Voltage from DAC C. The output amplifier has rail-to-rail operation.", 8 POR (in) "Power-On Reset. Tying this pin to GND powers up the part to 0 V. Tying this pin to VDD powers up the part to midscale.", 9 VREFC (in) "DAC C Reference Input. This is the reference voltage input pin for DAC C.", 10 ~{CLR} (in) "Asynchronous Clear Input. The C\L\R\ input is falling edge sensitive. When C\L\R\ is low, all L\D\A\C\ pulses are ignored. When C\L\R\ is activated, the input register and the DAC register are updated with the data contained (See Datasheet)", 11 VREFD (in) "DAC D Reference Input. This is the reference voltage input pin for DAC D.", 12 VOUTD (hiz) "Analog Output Voltage from DAC D. The output amplifier has rail-to-rail operation.", 13 VOUTB (hiz) "Analog Output Voltage from DAC B. The output amplifier has rail-to-rail operation.", 14 GND (power) "Ground Reference Point for All Circuitry on the Part.", 15 DIN (in) "Serial Data Input. This device has a 32-bit shift register. Data is clocked into the shift register on the falling edge of the serial clock input.", 16 SCLK (in) "Serial Clock Input. Data is clocked into the shift register on the falling edge of the serial clock input. Data can be transferred at rates of up to 50 MHz."

## AD5064BRUZ-REEL7
designator U?
Quad 16-Bit Fully Accurate Voltage Output nanoDAC with SPI Interface, 5 V, -40 to +125 degC, RU-16, Pb-Free, Reel; Generic Part Number: AD5064; Manufacturer: Analog Devices; PartNumber: AD5064BRUZ-REEL7; # DAC Outputs: 4; Max V+: 5.5V; Op Pwr Diss: 20mW; Resolution (Bits): 16; Settling Time: 8µs; Single Supply: Yes; DatasheetVersion: Rev.E; PackageVersion: Nov-2002; PackageReference: RU-16; PackageDescription: 16-Lead Thin Shrink Small Outline Package [TSSOP]; Supplier 1: Digi-Key; Supplier Part Number 1: AD5064BRUZ-REEL7-ND; Supplier 2: Newark; Supplier Part Number 2: 11P2916; Supplier 3: Mouser; Supplier Part Number 3: 584-AD5064BRUZ-R7; Packing: Reel; RoHS: Y; Mounting Technology: Surface Mount; Code_JEDEC: MO-153-AB; ComponentLink1Description: Manufacturer URL; ComponentLink1URL: http://www.analog.com/en/index.html; ComponentLink2Description: Datasheet; ComponentLink2URL: http://www.analog.com/static/imported-files/data_sheets/AD5024_AD5044_AD5064.pdf; ComponentLink3Description: Package Specification; ComponentLink3URL: http://www.analog.com/static/imported-files/packages/36244347913743854010197452789RU16.pdf; ComponentLink4Description: Product URL; ComponentLink4URL: http://www.analog.com/en/digital-to-analog-converters/da-converters/ad5064/products/product.html
footprint RU-16_N (TSOP, 16-Leads, Body 5x4.4mm, Pitch 0.65mm, IPC Medium Density)
footprint RU-16_L (TSOP, 16-Leads, Body 5x4.4mm, Pitch 0.65mm, IPC High Density)
footprint RU-16_M (TSOP, 16-Leads, Body 5x4.4mm, Pitch 0.65mm, IPC Low Density)
pins: 1 ~{LDAC} (in) "L\D\A\C\ can be operated in two modes, asynchronously and synchronously, as shown in Figure4. Pulsing this pin low allows any or all DAC registers to be updated if the input registers have new data. This allows all DAC (See Datasheet)", 2 ~{SYNC} (in) "Active Low Control Input. This is the frame synchronization signal for the input data. When S\Y\N\C\ goes low, it powers on the SCLK and DIN buffers and enables the shift register. Data is transferred in on the falling edges (See Datasheet)", 3 VDD (power) "Power Supply Input. These parts can be operated from 4.5 V to 5.5 V, and the supply should be decoupled with a 10 uF capacitor in parallel with a 0.1 uF capacitor to GND.", 4 VREFB (in) "DAC B Reference Input. This is the reference voltage input pin for DAC B.", 5 VREFA (in) "DAC A Reference Input. This is the reference voltage input pin for DAC A.", 6 VOUTA (hiz) "Analog Output Voltage from DAC A. The output amplifier has rail-to-rail operation.", 7 VOUTC (hiz) "Analog Output Voltage from DAC C. The output amplifier has rail-to-rail operation.", 8 POR (in) "Power-On Reset. Tying this pin to GND powers up the part to 0 V. Tying this pin to VDD powers up the part to midscale.", 9 VREFC (in) "DAC C Reference Input. This is the reference voltage input pin for DAC C.", 10 ~{CLR} (in) "Asynchronous Clear Input. The C\L\R\ input is falling edge sensitive. When C\L\R\ is low, all L\D\A\C\ pulses are ignored. When C\L\R\ is activated, the input register and the DAC register are updated with the data contained (See Datasheet)", 11 VREFD (in) "DAC D Reference Input. This is the reference voltage input pin for DAC D.", 12 VOUTD (hiz) "Analog Output Voltage from DAC D. The output amplifier has rail-to-rail operation.", 13 VOUTB (hiz) "Analog Output Voltage from DAC B. The output amplifier has rail-to-rail operation.", 14 GND (power) "Ground Reference Point for All Circuitry on the Part.", 15 DIN (in) "Serial Data Input. This device has a 32-bit shift register. Data is clocked into the shift register on the falling edge of the serial clock input.", 16 SCLK (in) "Serial Clock Input. Data is clocked into the shift register on the falling edge of the serial clock input. Data can be transferred at rates of up to 50 MHz."

## AD5065ARUZ
designator U?
Dual 16-Bit Fully Accurate nanoDAC with SPI Interface, -40 to +125 degC, RU-14, Pb-Free, Tube; Generic Part Number: AD5065; Manufacturer: Analog Devices; PartNumber: AD5065ARUZ; # DAC Outputs: 2; Max V+: 5.5V; Op Pwr Diss: 13.5mW; Resolution (Bits): 16; Settling Time: 10.7µs; Single Supply: Yes; DatasheetVersion: Rev.0; PackageVersion: Aug-2002; PackageReference: RU-14; PackageDescription: 14-Lead Thin Shrink Small Outline Package [TSSOP]; Supplier 1: Digi-Key; Supplier Part Number 1: AD5065ARUZ-ND; Supplier 2: Farnell; Supplier Part Number 2: 2067839; Supplier 3: Newark; Supplier Part Number 3: 24R9007; Supplier 4: Mouser; Supplier Part Number 4: 584-AD5065ARUZ; Packing: Tube; RoHS: Y; Mounting Technology: Surface Mount; Code_JEDEC: MO-153-AB-1; ComponentLink1Description: Manufacturer URL; ComponentLink1URL: http://www.analog.com/en/index.html; ComponentLink2Description: Datasheet; ComponentLink2URL: http://www.analog.com/static/imported-files/data_sheets/AD5025_5045_5065.pdf; ComponentLink3Description: Package Specification; ComponentLink3URL: http://www.analog.com/static/imported-files/packages/36057385283879153717235186773RU14.pdf; ComponentLink4Description: Product URL; ComponentLink4URL: http://www.analog.com/en/digital-to-analog-converters/da-converters/ad5065/products/product.html
footprint RU-14_N (TSOP, 14-Leads, Body 5x4.4mm, Pitch 0.65mm, IPC Medium Density)
footprint RU-14_L (TSOP, 14-Leads, Body 5x4.4mm, Pitch 0.65mm, IPC High Density)
footprint RU-14_M (TSOP, 14-Leads, Body 5x4.4mm, Pitch 0.65mm, IPC Low Density)
pins: 1 ~{LDAC} (in) "Pulsing this pin low allows any or all DAC registers to be updated if the input registers have new data. This allows all DAC outputs to simultaneously update. This pin can be tied permanently low in standalone mode. When (See Datasheet)", 2 ~{SYNC} (in) "Active Low Control Input. This is the frame synchronization signal for the input data. When S\Y\N\C\ goes low, it powers on the SCLK and DIN buffers and enables the input register. Data is transferred in on the falling edges (See Datasheet)", 3 VDD (power) "Power Supply Input. These parts can be operated from 4.5 V to 5.5 V, and the supply should be decoupled with a 10 uF capacitor in parallel with a 0.1 uF capacitor to GND.", 4 VREFA (in) "DAC A Reference Input. This is the reference voltage input pin for DAC A.", 5 VOUTA (hiz) "Analog Output Voltage from DAC A. The output amplifier has rail-to-rail operation.", 6 POR (in) "Power-On Reset Pin. Tying this pin to GND powers up the part to 0 V. Tying this pin to VDD powers up the part to midscale.", 7 SDO (out) "Serial Data Output. Can be used for daisy-chaining a number of these devices together or for reading back the data in the shift register for diagnostic purposes. The serial data is transferred on the rising edge of SCLK and (See Datasheet)", 8 ~{CLR} (in) "Asynchronous Clear Input. The C\L\R\ input is falling edge sensitive. When C\L\R\ is low, all L\D\A\C\ pulses are ignored. When C\L\R\ is activated, the input register and the DAC register are updated with the data contained (See Datasheet)", 9 VREFB (in) "DAC B Reference Input. This is the reference voltage input pin for DAC B.", 10 VOUTB (hiz) "Analog Output Voltage from DAC B. The output amplifier has rail-to-rail operation.", 11 GND (power) "Ground Reference Point for All Circuitry on the Part.", 12 ~{PDL} (in) "The P\D\L\ pin is used to ensure hardware shutdown lockout of the device under any circumstance. A Logic 1 at the P\L\O\ pin causes the device to behave as normal. The user may successfully enter software power-down over the (See Datasheet)", 13 DIN (in) "Serial Data Input. This device has a 32-bit shift register. Data is clocked into the register on the falling edge of the serial clock input.", 14 SCLK (in) "Serial Clock Input. Data is clocked into the input register on the falling edge of the serial clock input. Data can be transferred at rates of up to 50 MHz."

## AD5065ARUZ-REEL7
designator U?
Dual 16-Bit Fully Accurate nanoDAC with SPI Interface, -40 to +125 degC, RU-14, Pb-Free, Reel; Generic Part Number: AD5065; Manufacturer: Analog Devices; PartNumber: AD5065ARUZ-REEL7; # DAC Outputs: 2; Max V+: 5.5V; Op Pwr Diss: 13.5mW; Resolution (Bits): 16; Settling Time: 10.7µs; Single Supply: Yes; DatasheetVersion: Rev.0; PackageVersion: Aug-2002; PackageReference: RU-14; PackageDescription: 14-Lead Thin Shrink Small Outline Package [TSSOP]; Supplier 1: Digi-Key; Supplier Part Number 1: AD5065ARUZ-REEL7-ND; Supplier 2: Mouser; Supplier Part Number 2: 584-AD5065ARUZ-R7; Packing: Reel; RoHS: Y; Mounting Technology: Surface Mount; Code_JEDEC: MO-153-AB-1; ComponentLink1Description: Manufacturer URL; ComponentLink1URL: http://www.analog.com/en/index.html; ComponentLink2Description: Datasheet; ComponentLink2URL: http://www.analog.com/static/imported-files/data_sheets/AD5025_5045_5065.pdf; ComponentLink3Description: Package Specification; ComponentLink3URL: http://www.analog.com/static/imported-files/packages/36057385283879153717235186773RU14.pdf; ComponentLink4Description: Product URL; ComponentLink4URL: http://www.analog.com/en/digital-to-analog-converters/da-converters/ad5065/products/product.html
footprint RU-14_N (TSOP, 14-Leads, Body 5x4.4mm, Pitch 0.65mm, IPC Medium Density)
footprint RU-14_L (TSOP, 14-Leads, Body 5x4.4mm, Pitch 0.65mm, IPC High Density)
footprint RU-14_M (TSOP, 14-Leads, Body 5x4.4mm, Pitch 0.65mm, IPC Low Density)
pins: 1 ~{LDAC} (in) "Pulsing this pin low allows any or all DAC registers to be updated if the input registers have new data. This allows all DAC outputs to simultaneously update. This pin can be tied permanently low in standalone mode. When (See Datasheet)", 2 ~{SYNC} (in) "Active Low Control Input. This is the frame synchronization signal for the input data. When S\Y\N\C\ goes low, it powers on the SCLK and DIN buffers and enables the input register. Data is transferred in on the falling edges (See Datasheet)", 3 VDD (power) "Power Supply Input. These parts can be operated from 4.5 V to 5.5 V, and the supply should be decoupled with a 10 uF capacitor in parallel with a 0.1 uF capacitor to GND.", 4 VREFA (in) "DAC A Reference Input. This is the reference voltage input pin for DAC A.", 5 VOUTA (hiz) "Analog Output Voltage from DAC A. The output amplifier has rail-to-rail operation.", 6 POR (in) "Power-On Reset Pin. Tying this pin to GND powers up the part to 0 V. Tying this pin to VDD powers up the part to midscale.", 7 SDO (out) "Serial Data Output. Can be used for daisy-chaining a number of these devices together or for reading back the data in the shift register for diagnostic purposes. The serial data is transferred on the rising edge of SCLK and (See Datasheet)", 8 ~{CLR} (in) "Asynchronous Clear Input. The C\L\R\ input is falling edge sensitive. When C\L\R\ is low, all L\D\A\C\ pulses are ignored. When C\L\R\ is activated, the input register and the DAC register are updated with the data contained (See Datasheet)", 9 VREFB (in) "DAC B Reference Input. This is the reference voltage input pin for DAC B.", 10 VOUTB (hiz) "Analog Output Voltage from DAC B. The output amplifier has rail-to-rail operation.", 11 GND (power) "Ground Reference Point for All Circuitry on the Part.", 12 ~{PDL} (in) "The P\D\L\ pin is used to ensure hardware shutdown lockout of the device under any circumstance. A Logic 1 at the P\L\O\ pin causes the device to behave as normal. The user may successfully enter software power-down over the (See Datasheet)", 13 DIN (in) "Serial Data Input. This device has a 32-bit shift register. Data is clocked into the register on the falling edge of the serial clock input.", 14 SCLK (in) "Serial Clock Input. Data is clocked into the input register on the falling edge of the serial clock input. Data can be transferred at rates of up to 50 MHz."